# Altium footprint library Micro USB.PcbLib: 1 footprints
Each footprint in its own frame and in the unit in brackets; x right, y up, seen from the top. Pads: shape width x height; smd on the part's side, far side on the other; paste and mask are expansions set on the pad; w line width, h text height; cw(c..) or ccw(c..) is an arc to the next point about the centre after c.
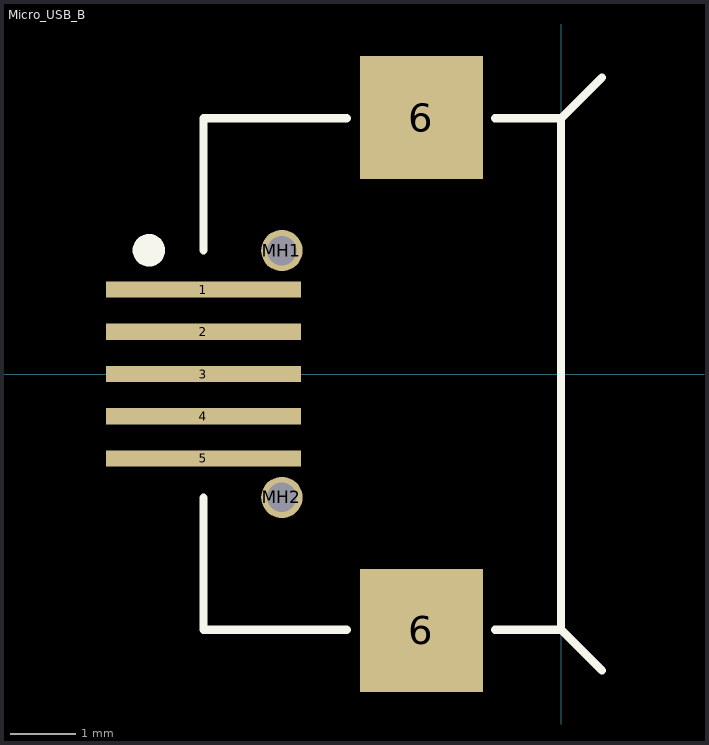
[diagram p0: the footprint, top view; thin cyan lines are the x and y axes]

## Micro_USB_B [mm] "5P 贴片 带定位柱"
pads (9):
  rect 3x0.25 smd: 1(-5.508,1.3) 2(-5.508,0.65) 3(-5.508,0) 4(-5.508,-0.65) 5(-5.508,-1.3)
  rect 1.9x1.9 smd: 6(-2.15,-3.95) 6(-2.15,3.95)
  round 0.635 hole 0.457 unplated: MH1(-4.3,1.9) MH2(-4.3,-1.9)
Top Overlay:
  circle w0.25: c-6.348,1.905 r0.125
  lines w0.127: -5.508,-3.937 -3.302,-3.937 ; -5.508,-3.9 -5.508,-1.905 ; -5.508,1.905 -5.508,3.9 ; -5.508,3.937 -3.302,3.937 ; -1.016,-3.937 0,-3.937 0.63,-4.567 ; -1.016,3.937 0,3.937 0.63,4.567 ; 0,-3.9 0,3.9